# EAGLE library part ZERO (library raspberry-pi)
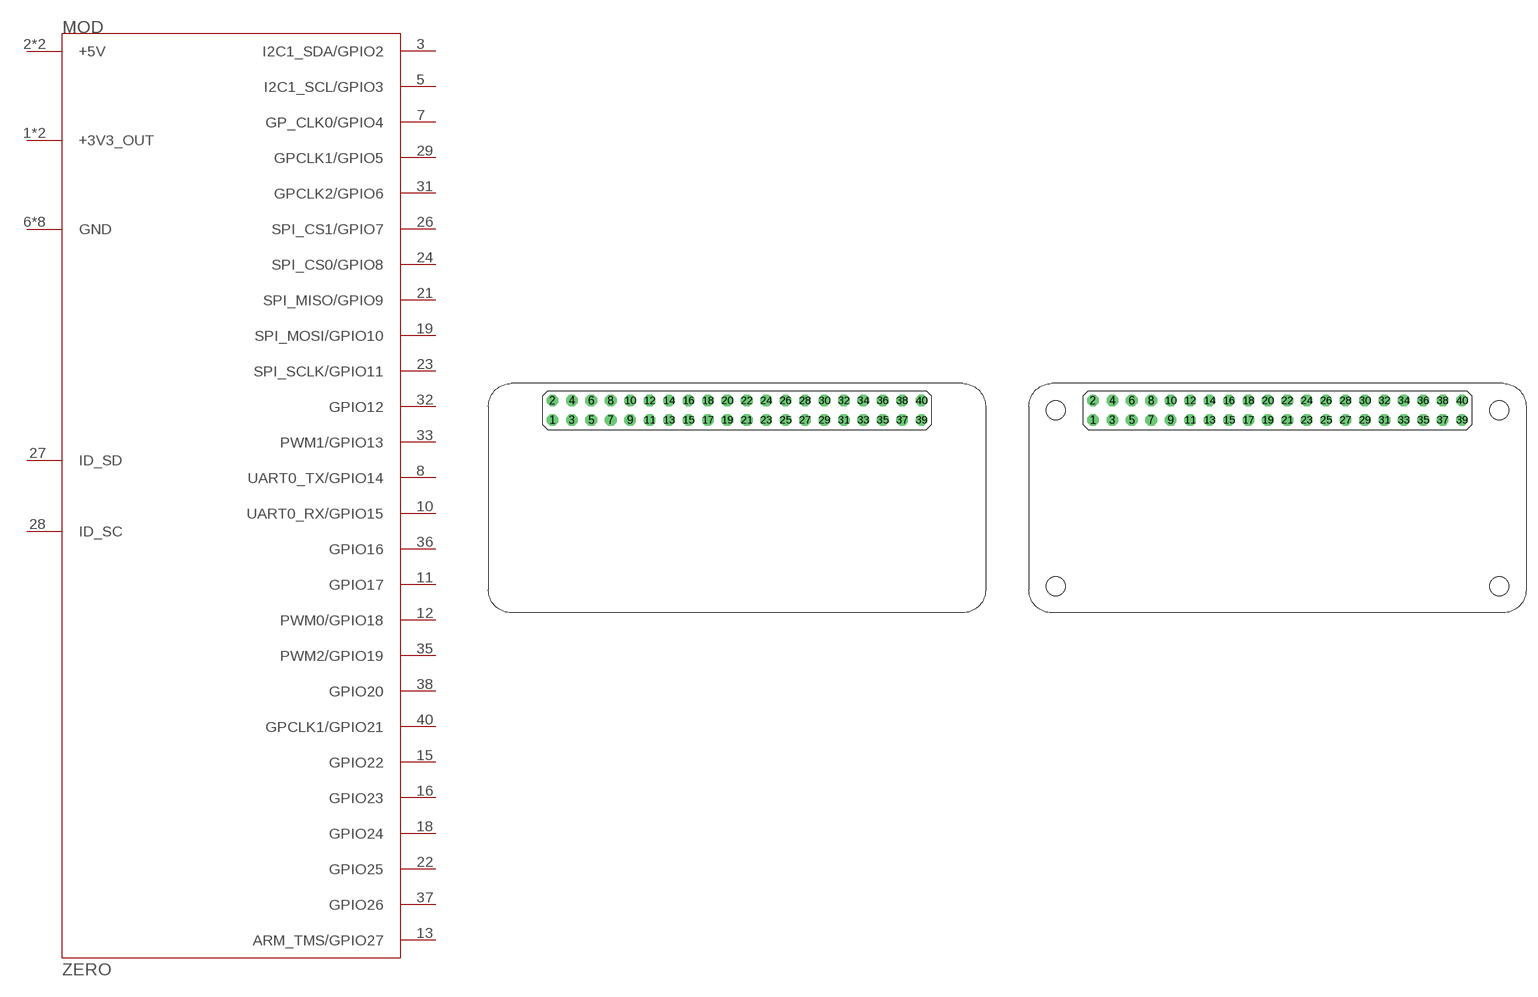
[diagram p0: symbol with the pads of ZERO_THT; footprints ZERO_THT, ZERO_THT+HOLES]

Designator prefix MOD

## ZEROT  [ZERO_THT]
1  +3V3_OUT  out
2  +5V  pwr
3  I2C1_SDA/GPIO2
4  +5V  pwr
5  I2C1_SCL/GPIO3
6  GND  pwr
7  GP_CLK0/GPIO4
8  UART0_TX/GPIO14
9  GND  pwr
10  UART0_RX/GPIO15
11  GPIO17
12  PWM0/GPIO18
13  ARM_TMS/GPIO27
14  GND  pwr
15  GPIO22
16  GPIO23
17  +3V3_OUT  out
18  GPIO24
19  SPI_MOSI/GPIO10
20  GND  pwr
21  SPI_MISO/GPIO9
22  GPIO25
23  SPI_SCLK/GPIO11
24  SPI_CS0/GPIO8
25  GND  pwr
26  SPI_CS1/GPIO7
27  ID_SD
28  ID_SC
29  GPCLK1/GPIO5
30  GND  pwr
31  GPCLK2/GPIO6
32  GPIO12
33  PWM1/GPIO13
34  GND  pwr
35  PWM2/GPIO19
36  GPIO16
37  GPIO26
38  GPIO20
39  GND  pwr
40  GPCLK1/GPIO21

## ZEROTH  [ZERO_THT+HOLES]
Pads as for ZERO_THT

## ZEROS  [ZERO_SMT]
Pads as for ZERO_THT

## Footprint ZERO_THT (pad centres in mm)
drill 1.016 octagon: 1 -24.13,-1.27; 2 -24.13,1.27; 3 -21.59,-1.27; 4 -21.59,1.27; 5 -19.05,-1.27; 6 -19.05,1.27; 7 -16.51,-1.27; 8 -16.51,1.27; 9 -13.97,-1.27; 10 -13.97,1.27; 11 -11.43,-1.27; 12 -11.43,1.27; 13 -8.89,-1.27; 14 -8.89,1.27; 15 -6.35,-1.27; 16 -6.35,1.27; 17 -3.81,-1.27; 18 -3.81,1.27; 19 -1.27,-1.27; 20 -1.27,1.27; 21 1.27,-1.27; 22 1.27,1.27; 23 3.81,-1.27; 24 3.81,1.27; 25 6.35,-1.27; 26 6.35,1.27; 27 8.89,-1.27; 28 8.89,1.27; 29 11.43,-1.27; 30 11.43,1.27; 31 13.97,-1.27; 32 13.97,1.27; 33 16.51,-1.27; 34 16.51,1.27; 35 19.05,-1.27; 36 19.05,1.27; 37 21.59,-1.27; 38 21.59,1.27; 39 24.13,-1.27; 40 24.13,1.27

## Footprint ZERO_THT+HOLES (pad centres in mm)
drill 1.016 octagon: 1 -24.13,-1.27; 2 -24.13,1.27; 3 -21.59,-1.27; 4 -21.59,1.27; 5 -19.05,-1.27; 6 -19.05,1.27; 7 -16.51,-1.27; 8 -16.51,1.27; 9 -13.97,-1.27; 10 -13.97,1.27; 11 -11.43,-1.27; 12 -11.43,1.27; 13 -8.89,-1.27; 14 -8.89,1.27; 15 -6.35,-1.27; 16 -6.35,1.27; 17 -3.81,-1.27; 18 -3.81,1.27; 19 -1.27,-1.27; 20 -1.27,1.27; 21 1.27,-1.27; 22 1.27,1.27; 23 3.81,-1.27; 24 3.81,1.27; 25 6.35,-1.27; 26 6.35,1.27; 27 8.89,-1.27; 28 8.89,1.27; 29 11.43,-1.27; 30 11.43,1.27; 31 13.97,-1.27; 32 13.97,1.27; 33 16.51,-1.27; 34 16.51,1.27; 35 19.05,-1.27; 36 19.05,1.27; 37 21.59,-1.27; 38 21.59,1.27; 39 24.13,-1.27; 40 24.13,1.27
hole 2.5 at -29,0
hole 2.5 at 29,0
hole 2.5 at 29,-23
hole 2.5 at -29,-23

## Footprint ZERO_SMT (pad centres in mm)
smd 1 x 1.9: 1 -24.13,-2.9; 2 -24.13,2.9; 3 -21.59,-2.9; 4 -21.59,2.9; 5 -19.05,-2.9; 6 -19.05,2.9; 7 -16.51,-2.9; 8 -16.51,2.9; 9 -13.97,-2.9; 10 -13.97,2.9; 11 -11.43,-2.9; 12 -11.43,2.9; 13 -8.89,-2.9; 14 -8.89,2.9; 15 -6.35,-2.9; 16 -6.35,2.9; 17 -3.81,-2.9; 18 -3.81,2.9; 19 -1.27,-2.9; 20 -1.27,2.9; 21 1.27,-2.9; 22 1.27,2.9; 23 3.81,-2.9; 24 3.81,2.9; 25 6.35,-2.9; 26 6.35,2.9; 27 8.89,-2.9; 28 8.89,2.9; 29 11.43,-2.9; 30 11.43,2.9; 31 13.97,-2.9; 32 13.97,2.9; 33 16.51,-2.9; 34 16.51,2.9; 35 19.05,-2.9; 36 19.05,2.9; 37 21.59,-2.9; 38 21.59,2.9; 39 24.13,-2.9; 40 24.13,2.9